# Altium integrated library 7-215079-4.IntLib: 1 symbol
Pins are listed as number, name and electrical type; pins without a type are passive.

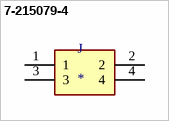
[diagram p0: symbol 7-215079-4]

## 7-215079-4
designator J
Micro-MaTch 4 Position 1.27 mm Pitch Vertical Female-on-Board Connector; MP: 7-215079-4; MF: TE Connectivity; Value: *; SnapEDA_Link: https://www.snapeda.com/parts/7-215079-4/TE%20Connectivity%20AMP%20Connectors/view-part/453401/?ref=snap; Price: None; Package: SMD-6; Availability: Unavailable
footprint TE_7-215079-4
pins: 1, 2, 3, 4